# Altium schematic symbol library TPS63070RNMR.SchLib: 1 symbol
Pins are listed as number, name and electrical type; pins without a type are passive.

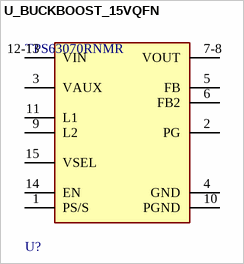
[diagram p0: symbol U_BUCKBOOST_15VQFN]

## U_BUCKBOOST_15VQFN
designator U?, comment TPS63070RNMR
IC REG BCK BST ADJ 3.6A 15VQFN; Synchronous Rectifier: Yes; Output Type: Adjustable; Output Current: 2A; Max Input Voltage: 16V; Switching Frequency: 2.4MHz; Min Output Voltage: 2.5V; Output Configuration: Positive; Min Input Voltage: 2V; Topology: Buck-Boost; Number of Outputs: 1; Max Output Voltage: 9V; Quiescent Current: 50uA; Max Operating Temperature: 125°C; Case/Package: VQFN; Number of Pins: 15; RoHS Compliant: Yes; Mount: Surface Mount; Min Operating Temperature: -40°C; Lead Free: Lead Free; Packaging: Tape and Reel
footprint FP-RNM0015A-MFG
pins: 1 PS/S, 2 PG, 3 VAUX, 4 GND, 5 FB, 6 FB2, 7-8 VOUT, 9 L2, 10 PGND, 11 L1, 12-13 VIN, 14 EN, 15 VSEL